# Altium footprint library GPS.PcbLib: 2 footprints
Each footprint in its own frame and in the unit in brackets; x right, y up, seen from the top. Pads: shape width x height; smd on the part's side, far side on the other; paste and mask are expansions set on the pad; w line width, h text height; cw(c..) or ccw(c..) is an arc to the next point about the centre after c.
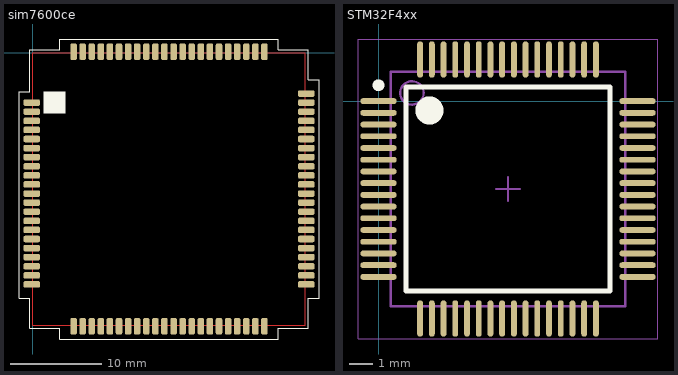
[diagram p0: the footprints below, top view; thin cyan lines are the x and y axes]

## sim7600ce [mm] "Module sim 7600CE"
pads (87):
  rrect50% 1.8x0.72 smd: 1(-0.1,-5.5) 1(30.1,-4.5) 2(-0.1,-6.5) 2(30.1,-5.5) 3(-0.1,-7.5) 3(30.1,-6.5) 4(-0.1,-8.5) 4(30.1,-7.5) 5(-0.1,-9.5) 5(30.1,-8.5) 6(-0.1,-10.5) 6(30.1,-9.5) 7(-0.1,-11.5) 7(30.1,-10.5) 8(-0.1,-12.5) 8(30.1,-11.5) 9(-0.1,-13.5) 9(30.1,-12.5) 10(-0.1,-14.5) 10(30.1,-13.5) 11(-0.1,-15.5) 11(30.1,-14.5) 12(-0.1,-16.5) 12(30.1,-15.5) 13(-0.1,-17.5) 13(30.1,-16.5) 14(-0.1,-18.5) 14(30.1,-17.5) 15(-0.1,-19.5) 15(30.1,-18.5) 16(-0.1,-20.5) 16(30.1,-19.5) 17(-0.1,-21.5) 17(30.1,-20.5) 18(-0.1,-22.5) 18(30.1,-21.5) 19(-0.1,-23.5) 19(30.1,-22.5) 20(-0.1,-24.5) 20(30.1,-23.5) 21(-0.1,-25.5) 21(30.1,-25.5) 21(30.1,-24.5)
  rrect50% 0.72x1.8 smd: 1(4.5,-30.1) 1(4.5,0.1) 2(5.5,-30.1) 2(5.5,0.1) 3(6.5,-30.1) 3(6.5,0.1) 4(7.5,-30.1) 4(7.5,0.1) 5(8.5,-30.1) 5(8.5,0.1) 6(9.5,-30.1) 6(9.5,0.1) 7(10.5,-30.1) 7(10.5,0.1) 8(11.5,-30.1) 8(11.5,0.1) 9(12.5,-30.1) 9(12.5,0.1) 10(13.5,-30.1) 10(13.5,0.1) 11(14.5,-30.1) 11(14.5,0.1) 12(15.5,-30.1) 12(15.5,0.1) 13(16.5,-30.1) 13(16.5,0.1) 14(17.5,-30.1) 14(17.5,0.1) 15(18.5,-30.1) 15(18.5,0.1) 16(19.5,-30.1) 16(19.5,0.1) 17(20.5,-30.1) 17(20.5,0.1) 18(21.5,-30.1) 18(21.5,0.1) 19(22.5,-30.1) 19(22.5,0.1) 20(23.5,-30.1) 20(23.5,0.1) 21(24.5,-30.1) 21(24.5,0.1) 21(25.5,0.1) 22(25.5,-30.1)
Top Layer:
  lines w0.1: 0,-30 0,0 30,0 30,-30 0,-30
Top Overlay:
  rectangle: 1.2,-6.7 3.6,-4.3
  lines w0.1: -1.5,-27 -1.5,-4.3 -0.3,-4.3 -0.3,0.3 3,0.3 3,1.5 27,1.5 27,0.3 30.3,0.3 30.3,-3 31.5,-3 31.5,-27 30.3,-27 30.3,-30.3 27,-30.3 27,-31.5 3,-31.5 3,-30.3 -0.3,-30.3 -0.3,-27 -1.5,-27

## STM32F4xx [mm]
pads (64):
  oval 1.55x0.25 smd: 1(0,0) 2(0,-0.5) 3(0,-1) 4(0,-1.5) 5(0,-2) 6(0,-2.5) 7(0,-3) 8(0,-3.5) 9(0,-4) 10(0,-4.5) 11(0,-5) 12(0,-5.5) 13(0,-6) 14(0,-6.5) 15(0,-7) 16(0,-7.5) 33(11.05,-7.5) 34(11.05,-7) 35(11.05,-6.5) 36(11.05,-6) 37(11.05,-5.5) 38(11.05,-5) 39(11.05,-4.5) 40(11.05,-4) 41(11.05,-3.5) 42(11.05,-3) 43(11.05,-2.5) 44(11.05,-2) 45(11.05,-1.5) 46(11.05,-1) 47(11.05,-0.5) 48(11.05,0)
  oval 0.25x1.55 smd: 17(1.775,-9.275) 18(2.275,-9.275) 19(2.775,-9.275) 20(3.275,-9.275) 21(3.775,-9.275) 22(4.275,-9.275) 23(4.775,-9.275) 24(5.275,-9.275) 25(5.775,-9.275) 26(6.275,-9.275) 27(6.775,-9.275) 28(7.275,-9.275) 29(7.775,-9.275) 30(8.275,-9.275) 31(8.775,-9.275) 32(9.275,-9.275) 49(9.275,1.775) 50(8.775,1.775) 51(8.275,1.775) 52(7.775,1.775) 53(7.275,1.775) 54(6.775,1.775) 55(6.275,1.775) 56(5.775,1.775) 57(5.275,1.775) 58(4.775,1.775) 59(4.275,1.775) 60(3.775,1.775) 61(3.275,1.775) 62(2.775,1.775) 63(2.275,1.775) 64(1.775,1.775)
Top Overlay:
  circle w0.25: c0,0.675 r0.125
  circle w0.6: c2.175,-0.4 r0.3
  lines w0.2: 1.175,-8.1 1.175,0.6 9.875,0.6 9.875,-8.1 1.175,-8.1
Mechanical 13:
  circle w0.1: c1.425,0.35 r0.5
  lines w0.1: 0.525,-8.75 0.525,1.25 10.525,1.25 10.525,-8.75 0.525,-8.75
Mechanical 15:
  lines w0.05: -0.875,-10.15 -0.875,2.65 11.925,2.65 11.925,-10.15 -0.875,-10.15
  lines w0.1: 5.025,-3.75 6.025,-3.75 ; 5.525,-4.25 5.525,-3.25
3D body: height 1.6, standoff 0.05, extent 0.525,-8.75 10.525,1.25